# Altium schematic symbol library CN_CNEDGE44.SchLib: 1 symbol
Pins are listed as number, name and electrical type; pins without a type are passive.

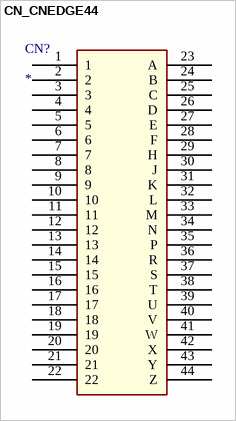
[diagram p0: symbol CN_CNEDGE44]

## CN_CNEDGE44
designator CN?
pins: 1, 2, 3, 4, 5, 6, 7, 8, 9, 10, 11, 12, 13, 14, 15, 16, 17, 18, 19, 20, 21, 22, 23 A, 24 B, 25 C, 26 D, 27 E, 28 F, 29 H, 30 J, 31 K, 32 L, 33 M, 34 N, 35 P, 36 R, 37 S, 38 T, 39 U, 40 V, 41 W, 42 X, 43 Y, 44 Z